# Altium schematic symbol library 36103505S.Schlib: 1 symbol
Pins are listed as number, name and electrical type; pins without a type are passive.

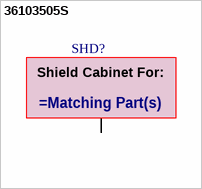
[diagram p0: symbol 36103505S]

## 36103505S
designator SHD?
Shielding Cabinet, SMT Frame, Tin Plated, 50x50x3mm
pins: 1
text: Shield Cabinet For: